# Altium schematic symbol library MicroSd.SchLib: 1 symbol
Pins are listed as number, name and electrical type; pins without a type are passive.

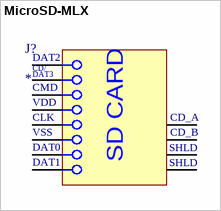
[diagram p0: symbol MicroSD-MLX]

## MicroSD-MLX
designator J?
Micro SD Card, RA, -25 to 85 degC, 8-Pin SMD, RoHS
footprint MOLEX-MicroSd
pins: 1 DAT2, 2 CD/DAT3, 3 CMD, 4 VDD, 5 CLK, 6 VSS, 7 DAT0, 8 DAT1, 9 CD_A, 10 CD_B, 11 SHLD1, 12 SHLD2
text: CD/; DAT3; SHLD; SD CARD